# Altium schematic symbol library LDO.SchLib: 10 symbols
Pins are listed as number, name and electrical type; pins without a type are passive.

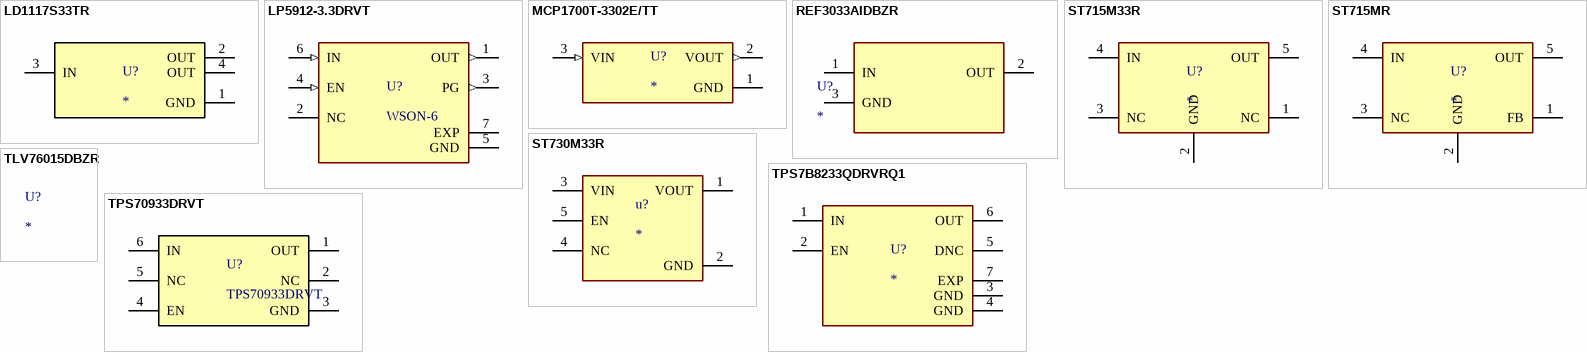
[diagram p0: symbols LD1117S33TR to TPS70933DRVT]

## LD1117S33TR
designator U?
Linear Voltage Regulator IC Positive Fixed 1 Output 800mA SOT-223
footprint LD1117S33TR (Linear Voltage Regulator IC Positive Fixed 1 Output 800mA SOT-223)
pins: 1 GND (power), 2 OUT (power), 3 IN (power), 4 OUT (power)

## LP5912-3.3DRVT
designator U?, comment WSON-6
500-mA low-noise low-IQ low-dropout voltage regulator with reverse current protect
footprint LP5912-3.3DRVT
pins: 1 OUT (out), 2 NC, 3 PG (out), 4 EN (in), 5 GND (power), 6 IN (in), 7 EXP (power)

## MCP1700T-3302E/TT
designator U?
Pwr Sply Func,Voltage Regulator,LDO,SOT-23,PD 369.6mW,VO 3.3V,Regline +/-0.75%/V | Microchip Technology Inc. MCP1700T-3302E/TT; ComponentLink1Description: New link; ComponentLink1URL: https://www.tme.eu/pl/details/mcp1700t-3302e_tt/stabilizatory-napiecia-nieregulowane-ldo/microchip-technology/
footprint MCP1700T-3302E/TT (Pwr Sply Func,Voltage Regulator,LDO,SOT-23,PD 369.6mW,VO 3.3V,Regline +/-0.75%/V)
pins: 1 GND (power), 2 VOUT (out), 3 VIN (in)

## REF3033AIDBZR
designator U?
3.3-V voltage reference;   50-ppm/°C, 50-µA in 3-pin SOT-23 package series (bandgap)
footprint REF3033AIDBZR (3.3-V voltage reference;   50-ppm/°C, 50-µA in 3-pin SOT-23 package series (bandgap))
pins: 1 IN (power), 2 OUT (power), 3 GND

## ST715M33R
designator U?
Linear Voltage Regulator IC Positive Fixed 1 Output 85mA SOT-23-5; ComponentLink1Description: New link; ComponentLink1URL: https://www.tme.eu/pl/details/st715m33r/stabilizatory-napiecia-nieregulowane-ldo/stmicroelectronics/
footprint ST715M33R (Linear Voltage Regulator IC Positive Fixed 1 Output 85mA SOT-23-5)
pins: 1 NC (power), 2 GND, 3 NC, 4 IN, 5 OUT (power)

## ST715MR
designator U?
Linear Voltage Regulator IC Positive Adjustable 1 Output 85mA SOT-23-5
footprint ST715MR (Linear Voltage Regulator IC Positive Adjustable 1 Output 85mA SOT-23-5)
pins: 1 FB (power), 2 GND, 3 NC, 4 IN, 5 OUT (power)

## ST730M33R
designator u?
Linear Voltage Regulator IC Positive Fixed 1 Output 300mA SOT-23-5; ComponentLink1Description: New link; ComponentLink1URL: https://www.tme.eu/pl/details/st730m33r/stabilizatory-napiecia-nieregulowane-ldo/stmicroelectronics/
footprint ST730M33R
pins: 1 VOUT (power), 2 GND (power), 3 VIN (power), 4 NC, 5 EN (power)

## TLV76015DBZR
designator U?
100-mA, 30-V, low-dropout voltage regulator

## TPS7B8233QDRVRQ1
designator U?
WSON-6, Automotive 300-mA, off-battery (40-V), ultra-low-IQ LDO with enable in AEC-Q100 Grade-0 and Grade-1
footprint TPS7B8233QDRVRQ1 (Automotive 300-mA, off-battery (40-V), ultra-low-IQ LDO with enable in AEC-Q100 Grade-0 and Grade-1)
pins: 1 IN (power), 2 EN (power), 3 GND (power), 4 GND (power), 5 DNC, 6 OUT (power), 7 EXP (power)

## TPS70933DRVT
designator U?
150-mA, 30-V, ultra-low-IQ, low-dropout voltage regulator with reverse current protection and enable; ComponentLink1Description: New link; ComponentLink1URL: https://www.mouser.pl/ProductDetail/Texas-Instruments/TPS70933DRVT?qs=R0RaSr%2FznUQVQ6RDv6K1YA%3D%3D
footprint TPS70933DRVT
pins: 1 OUT (power), 2 NC (power), 3 GND (power), 4 EN (power), 5 NC (power), 6 IN (power)